# Altium integrated library Linear Technology Power Management LDO Linear Regulators.IntLib: 2339 symbols (part 6 of 131)
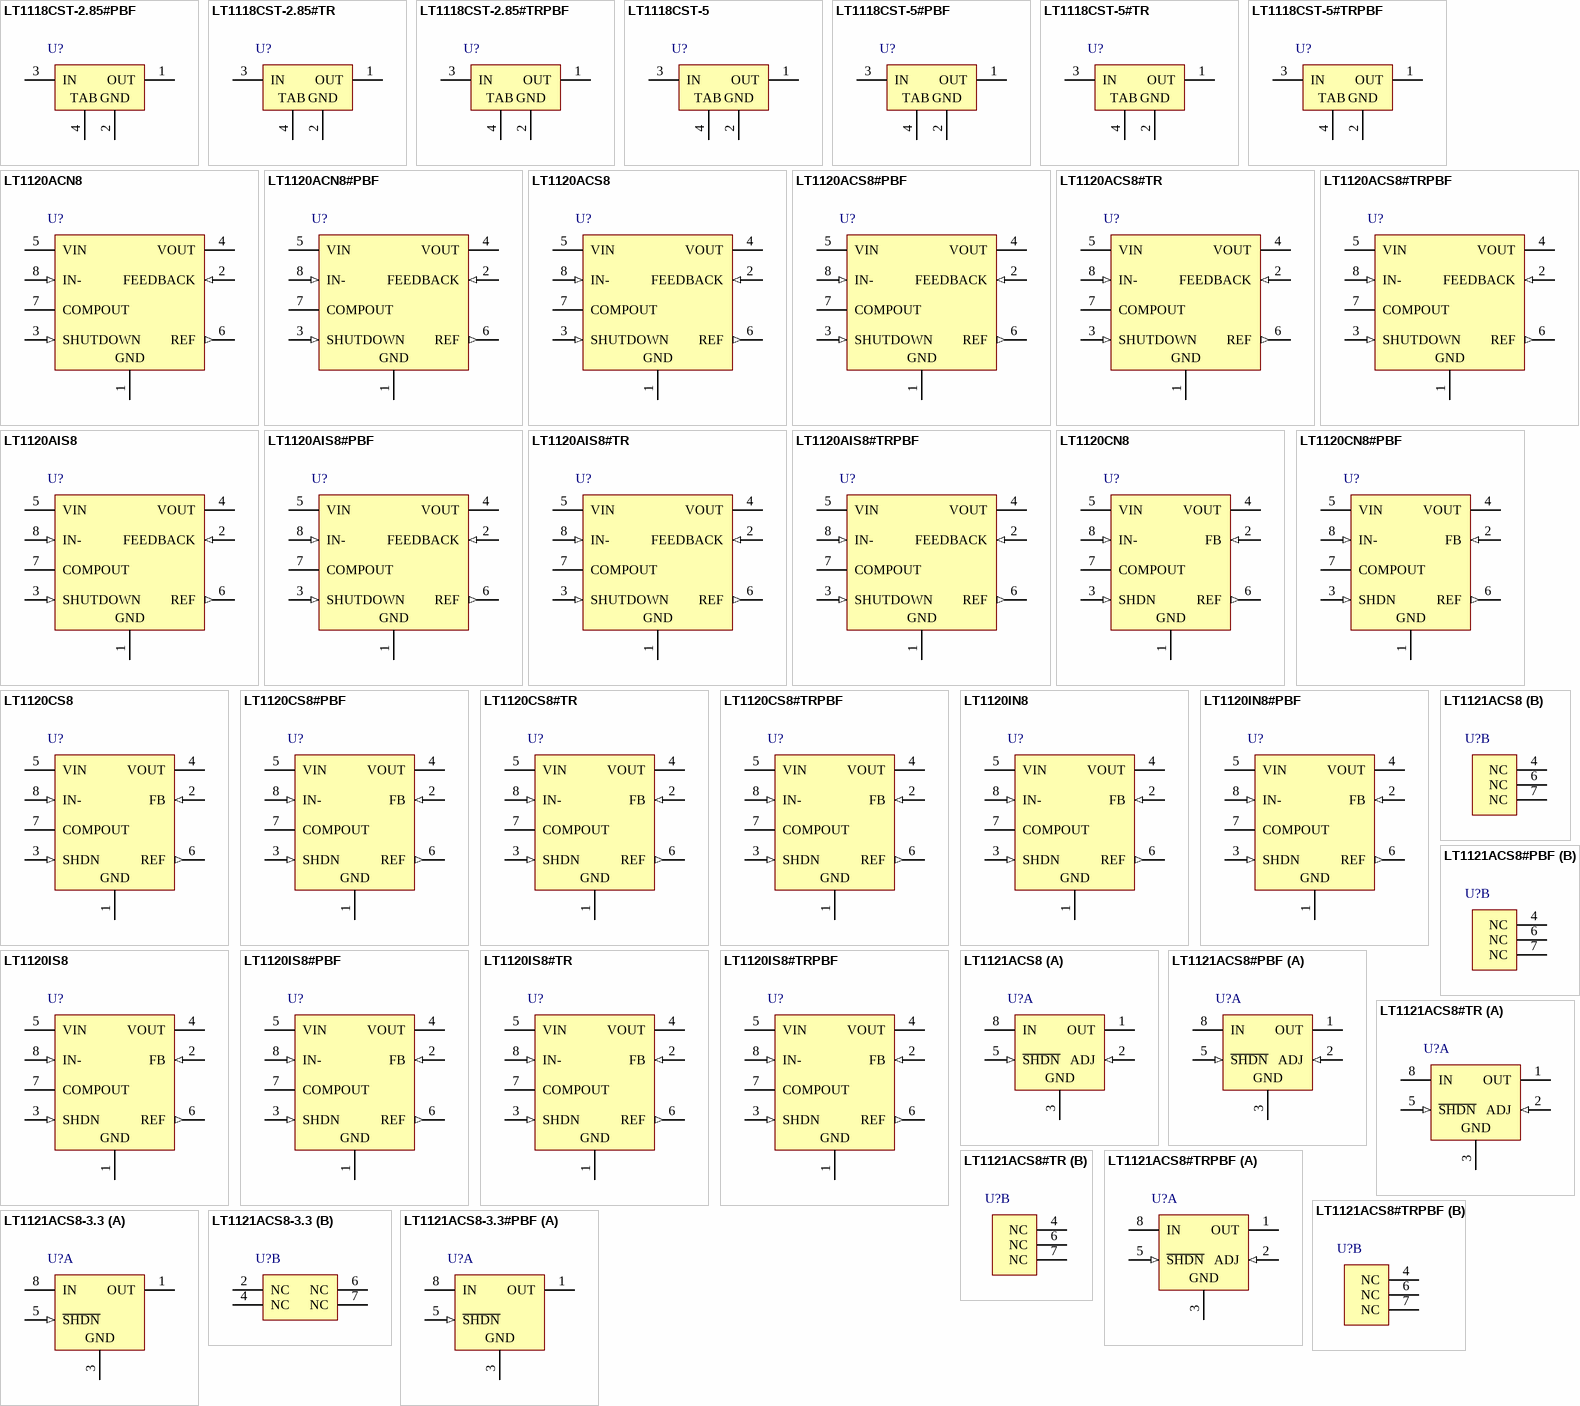
[diagram p74: symbols LT1118CST-2.85#PBF to LT1121ACS8-3.3#PBF]

## LT1118CST-5
designator U?
Low IQ, Low Dropout, 800 mA, Source and Sink Regulator, 3 to 15 V Vin, 5 V Vout, 3-pin SOT223 (ST-3), 0 to 70 degC; Manufacturer: Linear Technology; PartNumber: LT1118CST-5; Discrete Pass Element: no; Dropout Voltage(V): 1; Iout(mA): 800; Isupply(mA): 0.6; Output Voltage: 5 V; PSRR(dB): 80; Vin Max(V): 15; Vin Min(V): 3; DatasheetVersion: Rev. D; PackageVersion: Jun-10; PackageReference: ST-3; PackageDescription: 3-Pin Plastic SOT-223, 3.505 x 6.505 mm Body, Pitch 2.3 mm; Supplier 1: Digi-Key; Supplier Part Number 1: LT1118CST-5-ND; Supplier 2: Newark; Supplier Part Number 2: 57M1832; Number of Outputs: 1; RoHS: FALSE; Shutdown Current(uA): 1; Mounting Technology: Surface Mount; ComponentLink1Description: Manufacturer URL; ComponentLink1URL: http://www.linear.com/; ComponentLink2Description: Datasheet; ComponentLink2URL: http://cds.linear.com/docs/en/datasheet/1118fd.pdf; ComponentLink3Description: Package Specification; ComponentLink3URL: http://cds.linear.com/docs/en/packaging/SOT_3_05-08-1630.pdf
footprint LT-ST-3-SOT-223_N (SOT223, 4-Leads, Body 6.505x3.505mm, Pitch 2.3mm, IPC Medium Density)
footprint LT-ST-3-SOT-223_L (SOT223, 4-Leads, Body 6.505x3.505mm, Pitch 2.3mm, IPC High Density)
footprint LT-ST-3-SOT-223_M (SOT223, 4-Leads, Body 6.505x3.505mm, Pitch 2.3mm, IPC Low Density)
pins: 1 OUT (power) "Regulated Output Voltage. Output can source or sink current. Current limit for sourcing and sinking current is provided to protect the device from fault conditons. The output must have a low ESR output filter capacitor. COUT (See Datasheet)", 2 GND (power) "Ground Pin. The multiple GND pins on the SO-8 package are internally connected, but lowest load regulation errors will result if these pins are tightly connected on the printed circuit board. This will also aid heat (See Datasheet)", 3 IN (power) "Input Supply Pin. This pin should be decoupled with a 1uF or larger low ESR capacitor. The two IN pins on the SO-8 package must be directly connected on the printed circuit board to prevent voltage drops between the two (See Datasheet)", 4 TAB (power) "Ground Pin. The multiple GND pins on the SO-8 package are internally connected, but lowest load regulation errors will result if these pins are tightly connected on the printed circuit board. This will also aid heat (See Datasheet)"

## LT1118CST-5#PBF
designator U?
Low IQ, Low Dropout, 800 mA, Source and Sink Regulator, 3 to 15 V Vin, 5 V Vout, 3-pin SOT223 (ST-3), 0 to 70 degC, Pb-Free; Manufacturer: Linear Technology; PartNumber: LT1118CST-5#PBF; Discrete Pass Element: no; Dropout Voltage(V): 1; Iout(mA): 800; Isupply(mA): 0.6; Output Voltage: 5 V; PSRR(dB): 80; Vin Max(V): 15; Vin Min(V): 3; DatasheetVersion: Rev. D; PackageVersion: Jun-10; PackageReference: ST-3; PackageDescription: 3-Pin Plastic SOT-223, 3.505 x 6.505 mm Body, Pitch 2.3 mm; Supplier 1: Digi-Key; Supplier Part Number 1: LT1118CST-5#PBF-ND; Supplier 2: Farnell; Supplier Part Number 2: 1663360; Supplier 3: Newark; Supplier Part Number 3: 57M1833; Number of Outputs: 1; RoHS: TRUE; Shutdown Current(uA): 1; Mounting Technology: Surface Mount; ComponentLink1Description: Manufacturer URL; ComponentLink1URL: http://www.linear.com/; ComponentLink2Description: Datasheet; ComponentLink2URL: http://cds.linear.com/docs/en/datasheet/1118fd.pdf; ComponentLink3Description: Package Specification; ComponentLink3URL: http://cds.linear.com/docs/en/packaging/SOT_3_05-08-1630.pdf
footprint LT-ST-3-SOT-223_N (SOT223, 4-Leads, Body 6.505x3.505mm, Pitch 2.3mm, IPC Medium Density)
footprint LT-ST-3-SOT-223_L (SOT223, 4-Leads, Body 6.505x3.505mm, Pitch 2.3mm, IPC High Density)
footprint LT-ST-3-SOT-223_M (SOT223, 4-Leads, Body 6.505x3.505mm, Pitch 2.3mm, IPC Low Density)
pins: 1 OUT (power) "Regulated Output Voltage. Output can source or sink current. Current limit for sourcing and sinking current is provided to protect the device from fault conditons. The output must have a low ESR output filter capacitor. COUT (See Datasheet)", 2 GND (power) "Ground Pin. The multiple GND pins on the SO-8 package are internally connected, but lowest load regulation errors will result if these pins are tightly connected on the printed circuit board. This will also aid heat (See Datasheet)", 3 IN (power) "Input Supply Pin. This pin should be decoupled with a 1uF or larger low ESR capacitor. The two IN pins on the SO-8 package must be directly connected on the printed circuit board to prevent voltage drops between the two (See Datasheet)", 4 TAB (power) "Ground Pin. The multiple GND pins on the SO-8 package are internally connected, but lowest load regulation errors will result if these pins are tightly connected on the printed circuit board. This will also aid heat (See Datasheet)"

## LT1118CST-5#TR
designator U?
Low IQ, Low Dropout, 800 mA, Source and Sink Regulator, 3 to 15 V Vin, 5 V Vout, 3-pin SOT223 (ST-3), 0 to 70 degC, Tape and Reel; Manufacturer: Linear Technology; PartNumber: LT1118CST-5#TR; Discrete Pass Element: no; Dropout Voltage(V): 1; Iout(mA): 800; Isupply(mA): 0.6; Output Voltage: 5 V; PSRR(dB): 80; Vin Max(V): 15; Vin Min(V): 3; DatasheetVersion: Rev. D; PackageVersion: Jun-10; PackageReference: ST-3; PackageDescription: 3-Pin Plastic SOT-223, 3.505 x 6.505 mm Body, Pitch 2.3 mm; Supplier 1: Digi-Key; Supplier Part Number 1: LT1118CST-5#TR-ND; Supplier 2: Newark; Supplier Part Number 2: 57M1834; Number of Outputs: 1; Packing: Tape and Reel; RoHS: FALSE; Shutdown Current(uA): 1; Mounting Technology: Surface Mount; ComponentLink1Description: Manufacturer URL; ComponentLink1URL: http://www.linear.com/; ComponentLink2Description: Datasheet; ComponentLink2URL: http://cds.linear.com/docs/en/datasheet/1118fd.pdf; ComponentLink3Description: Package Specification; ComponentLink3URL: http://cds.linear.com/docs/en/packaging/SOT_3_05-08-1630.pdf
footprint LT-ST-3-SOT-223_N (SOT223, 4-Leads, Body 6.505x3.505mm, Pitch 2.3mm, IPC Medium Density)
footprint LT-ST-3-SOT-223_L (SOT223, 4-Leads, Body 6.505x3.505mm, Pitch 2.3mm, IPC High Density)
footprint LT-ST-3-SOT-223_M (SOT223, 4-Leads, Body 6.505x3.505mm, Pitch 2.3mm, IPC Low Density)
pins: 1 OUT (power) "Regulated Output Voltage. Output can source or sink current. Current limit for sourcing and sinking current is provided to protect the device from fault conditons. The output must have a low ESR output filter capacitor. COUT (See Datasheet)", 2 GND (power) "Ground Pin. The multiple GND pins on the SO-8 package are internally connected, but lowest load regulation errors will result if these pins are tightly connected on the printed circuit board. This will also aid heat (See Datasheet)", 3 IN (power) "Input Supply Pin. This pin should be decoupled with a 1uF or larger low ESR capacitor. The two IN pins on the SO-8 package must be directly connected on the printed circuit board to prevent voltage drops between the two (See Datasheet)", 4 TAB (power) "Ground Pin. The multiple GND pins on the SO-8 package are internally connected, but lowest load regulation errors will result if these pins are tightly connected on the printed circuit board. This will also aid heat (See Datasheet)"

## LT1118CST-5#TRPBF
designator U?
Low IQ, Low Dropout, 800 mA, Source and Sink Regulator, 3 to 15 V Vin, 5 V Vout, 3-pin SOT223 (ST-3), 0 to 70 degC, Pb-Free, Tape and Reel; Manufacturer: Linear Technology; PartNumber: LT1118CST-5#TRPBF; Discrete Pass Element: no; Dropout Voltage(V): 1; Iout(mA): 800; Isupply(mA): 0.6; Output Voltage: 5 V; PSRR(dB): 80; Vin Max(V): 15; Vin Min(V): 3; DatasheetVersion: Rev. D; PackageVersion: Jun-10; PackageReference: ST-3; PackageDescription: 3-Pin Plastic SOT-223, 3.505 x 6.505 mm Body, Pitch 2.3 mm; Supplier 1: Digi-Key; Supplier Part Number 1: LT1118CST-5#TRPBF-ND; Supplier 2: Newark; Supplier Part Number 2: 57M1835; Number of Outputs: 1; Packing: Tape and Reel; RoHS: TRUE; Shutdown Current(uA): 1; Mounting Technology: Surface Mount; ComponentLink1Description: Manufacturer URL; ComponentLink1URL: http://www.linear.com/; ComponentLink2Description: Datasheet; ComponentLink2URL: http://cds.linear.com/docs/en/datasheet/1118fd.pdf; ComponentLink3Description: Package Specification; ComponentLink3URL: http://cds.linear.com/docs/en/packaging/SOT_3_05-08-1630.pdf
footprint LT-ST-3-SOT-223_N (SOT223, 4-Leads, Body 6.505x3.505mm, Pitch 2.3mm, IPC Medium Density)
footprint LT-ST-3-SOT-223_L (SOT223, 4-Leads, Body 6.505x3.505mm, Pitch 2.3mm, IPC High Density)
footprint LT-ST-3-SOT-223_M (SOT223, 4-Leads, Body 6.505x3.505mm, Pitch 2.3mm, IPC Low Density)
pins: 1 OUT (power) "Regulated Output Voltage. Output can source or sink current. Current limit for sourcing and sinking current is provided to protect the device from fault conditons. The output must have a low ESR output filter capacitor. COUT (See Datasheet)", 2 GND (power) "Ground Pin. The multiple GND pins on the SO-8 package are internally connected, but lowest load regulation errors will result if these pins are tightly connected on the printed circuit board. This will also aid heat (See Datasheet)", 3 IN (power) "Input Supply Pin. This pin should be decoupled with a 1uF or larger low ESR capacitor. The two IN pins on the SO-8 package must be directly connected on the printed circuit board to prevent voltage drops between the two (See Datasheet)", 4 TAB (power) "Ground Pin. The multiple GND pins on the SO-8 package are internally connected, but lowest load regulation errors will result if these pins are tightly connected on the printed circuit board. This will also aid heat (See Datasheet)"

## LT1120ACN8
designator U?
Comparator and Reference, Logic Shutdown, Reference Sources and Sinks 2 / 4 mA, 4.5 to 36 V Vin, Adjustable Vout, 8-pin DIP (N8-8), 0 to 100 degC; Manufacturer: Linear Technology; PartNumber: LT1120ACN8; Discrete Pass Element: no; Dropout Voltage(V): 0.4; Iout(mA): 125; Isupply(mA): 0.02; Number of Outputs: 1; Output Voltage: Adj; Shutdown Current(uA): 10; Vin Max(V): 36; Vin Min(V): 4.5; Vout Max(V): 35.15; Vout Min(V): 2.5; DatasheetVersion: Rev. A; PackageVersion: Rev. I, 07/2011; PackageReference: N8-8; PackageDescription: 8-Pin PDIP, Body 10.16 x 6.48 mm, Pitch 2.54 mm; RoHS: FALSE; Mounting Technology: Through Hole; ComponentLink1Description: Manufacturer URL; ComponentLink1URL: http://www.linear.com/; ComponentLink2Description: Datasheet; ComponentLink2URL: http://cds.linear.com/docs/en/datasheet/1120afa.pdf; ComponentLink3Description: Package Specification; ComponentLink3URL: http://www.linear.com/docs/en/packaging/05081510_I_N8.pdf
footprint LT-N8-8 (DIP, 8-Leads, Body 10.16x6.48mm, Pitch 2.54mm)
pins: 1 GND (power) "Ground", 2 FEEDBACK (in) "This is the feedback point of the regulator. When operating, it is nominally at 2.5V. Optimum source resistance is 200k to 500k. The feedback pin should not be driven below ground or more positive than 5V", 3 SHUTDOWN (in) "A logic 1 shuts off main regulator. Caution: noise or leakage into the shutdown pin can affect output voltage.", 4 VOUT (power) "Main output, requires 10uF output capacitor. Can be shorted to VIN or ground without damaging device.", 5 VIN (power) "Input Supply. Bypass with 10uF capacitor. Must always be more positive than ground.", 6 REF (out) "Reference. 2.5V can source or sink current. May be shorted to ground or up to 5V. Voltages in excess of 5V can damage the device.", 7 COMPOUT (oc) "Open Collector NPN Output. May be connected to any voltage from ground to 36V more positive than ground (operates above VIN). Short-circuit protected", 8 IN- (in) "Inverting Comparator Input."

## LT1120ACN8#PBF
designator U?
Comparator and Reference, Logic Shutdown, Reference Sources and Sinks 2 / 4 mA, 4.5 to 36 V Vin, Adjustable Vout, 8-pin DIP (N8-8), 0 to 100 degC, Pb-Free; Manufacturer: Linear Technology; PartNumber: LT1120ACN8#PBF; Discrete Pass Element: no; Dropout Voltage(V): 0.4; Iout(mA): 125; Isupply(mA): 0.02; Number of Outputs: 1; Output Voltage: Adj; Shutdown Current(uA): 10; Vin Max(V): 36; Vin Min(V): 4.5; Vout Max(V): 35.15; Vout Min(V): 2.5; DatasheetVersion: Rev. A; PackageVersion: Rev. I, 07/2011; PackageReference: N8-8; PackageDescription: 8-Pin PDIP, Body 10.16 x 6.48 mm, Pitch 2.54 mm; Supplier 1: Digi-Key; Supplier Part Number 1: LT1120ACN8#PBF-ND; RoHS: TRUE; Mounting Technology: Through Hole; ComponentLink1Description: Manufacturer URL; ComponentLink1URL: http://www.linear.com/; ComponentLink2Description: Datasheet; ComponentLink2URL: http://cds.linear.com/docs/en/datasheet/1120afa.pdf; ComponentLink3Description: Package Specification; ComponentLink3URL: http://www.linear.com/docs/en/packaging/05081510_I_N8.pdf
footprint LT-N8-8 (DIP, 8-Leads, Body 10.16x6.48mm, Pitch 2.54mm)
pins: 1 GND (power) "Ground", 2 FEEDBACK (in) "This is the feedback point of the regulator. When operating, it is nominally at 2.5V. Optimum source resistance is 200k to 500k. The feedback pin should not be driven below ground or more positive than 5V", 3 SHUTDOWN (in) "A logic 1 shuts off main regulator. Caution: noise or leakage into the shutdown pin can affect output voltage.", 4 VOUT (power) "Main output, requires 10uF output capacitor. Can be shorted to VIN or ground without damaging device.", 5 VIN (power) "Input Supply. Bypass with 10uF capacitor. Must always be more positive than ground.", 6 REF (out) "Reference. 2.5V can source or sink current. May be shorted to ground or up to 5V. Voltages in excess of 5V can damage the device.", 7 COMPOUT (oc) "Open Collector NPN Output. May be connected to any voltage from ground to 36V more positive than ground (operates above VIN). Short-circuit protected", 8 IN- (in) "Inverting Comparator Input."

## LT1120ACS8
designator U?
Comparator and Reference, Logic Shutdown, Reference Sources and Sinks 2 / 4 mA, 4.5 to 36 V Vin, Adjustable Vout, 8-pin SOIC (S8-8), 0 to 100 degC; Manufacturer: Linear Technology; PartNumber: LT1120ACS8; Discrete Pass Element: no; Dropout Voltage(V): 0.4; Iout(mA): 125; Isupply(mA): 0.02; Number of Outputs: 1; Output Voltage: Adj; Shutdown Current(uA): 10; Vin Max(V): 36; Vin Min(V): 4.5; Vout Max(V): 35.15; Vout Min(V): 2.5; DatasheetVersion: Rev. A; PackageVersion: Rev. G, 03/2012; PackageReference: S8-8; PackageDescription: 8-Pin Plastic Small Outline (Narrow .150 Inch), Body 4.9 x 3.9 mm, Pitch 1.27 mm; Supplier 1: Digi-Key; Supplier Part Number 1: LT1120ACS8-ND; RoHS: FALSE; Mounting Technology: Surface Mount; ComponentLink1Description: Manufacturer URL; ComponentLink1URL: http://www.linear.com/; ComponentLink2Description: Datasheet; ComponentLink2URL: http://cds.linear.com/docs/en/datasheet/1120afa.pdf; ComponentLink3Description: Package Specification; ComponentLink3URL: http://cds.linear.com/docs/en/packaging/05081610_G_SO8.pdf
footprint LT-S8-8_N (SOIC, 8-Leads, Body 4.9x3.9mm, Pitch 1.27mm, IPC Medium Density)
footprint LT-S8-8_L (SOIC, 8-Leads, Body 4.9x3.9mm, Pitch 1.27mm, IPC High Density)
footprint LT-S8-8_M (SOIC, 8-Leads, Body 4.9x3.9mm, Pitch 1.27mm, IPC Low Density)
pins: 1 GND (power) "Ground", 2 FEEDBACK (in) "This is the feedback point of the regulator. When operating, it is nominally at 2.5V. Optimum source resistance is 200k to 500k. The feedback pin should not be driven below ground or more positive than 5V", 3 SHUTDOWN (in) "A logic 1 shuts off main regulator. Caution: noise or leakage into the shutdown pin can affect output voltage.", 4 VOUT (power) "Main output, requires 10uF output capacitor. Can be shorted to VIN or ground without damaging device.", 5 VIN (power) "Input Supply. Bypass with 10uF capacitor. Must always be more positive than ground.", 6 REF (out) "Reference. 2.5V can source or sink current. May be shorted to ground or up to 5V. Voltages in excess of 5V can damage the device.", 7 COMPOUT (oc) "Open Collector NPN Output. May be connected to any voltage from ground to 36V more positive than ground (operates above VIN). Short-circuit protected", 8 IN- (in) "Inverting Comparator Input."

## LT1120ACS8#PBF
designator U?
Comparator and Reference, Logic Shutdown, Reference Sources and Sinks 2 / 4 mA, 4.5 to 36 V Vin, Adjustable Vout, 8-pin SOIC (S8-8), 0 to 100 degC, Pb-Free; Manufacturer: Linear Technology; PartNumber: LT1120ACS8#PBF; Discrete Pass Element: no; Dropout Voltage(V): 0.4; Iout(mA): 125; Isupply(mA): 0.02; Number of Outputs: 1; Output Voltage: Adj; Shutdown Current(uA): 10; Vin Max(V): 36; Vin Min(V): 4.5; Vout Max(V): 35.15; Vout Min(V): 2.5; DatasheetVersion: Rev. A; PackageVersion: Rev. G, 03/2012; PackageReference: S8-8; PackageDescription: 8-Pin Plastic Small Outline (Narrow .150 Inch), Body 4.9 x 3.9 mm, Pitch 1.27 mm; Supplier 1: Digi-Key; Supplier Part Number 1: LT1120ACS8#PBF-ND; Supplier 2: Farnell; Supplier Part Number 2: 1273564; Supplier 3: Newark; Supplier Part Number 3: 57M1855; RoHS: TRUE; Mounting Technology: Surface Mount; ComponentLink1Description: Manufacturer URL; ComponentLink1URL: http://www.linear.com/; ComponentLink2Description: Datasheet; ComponentLink2URL: http://cds.linear.com/docs/en/datasheet/1120afa.pdf; ComponentLink3Description: Package Specification; ComponentLink3URL: http://cds.linear.com/docs/en/packaging/05081610_G_SO8.pdf
footprint LT-S8-8_N (SOIC, 8-Leads, Body 4.9x3.9mm, Pitch 1.27mm, IPC Medium Density)
footprint LT-S8-8_L (SOIC, 8-Leads, Body 4.9x3.9mm, Pitch 1.27mm, IPC High Density)
footprint LT-S8-8_M (SOIC, 8-Leads, Body 4.9x3.9mm, Pitch 1.27mm, IPC Low Density)
pins: 1 GND (power) "Ground", 2 FEEDBACK (in) "This is the feedback point of the regulator. When operating, it is nominally at 2.5V. Optimum source resistance is 200k to 500k. The feedback pin should not be driven below ground or more positive than 5V", 3 SHUTDOWN (in) "A logic 1 shuts off main regulator. Caution: noise or leakage into the shutdown pin can affect output voltage.", 4 VOUT (power) "Main output, requires 10uF output capacitor. Can be shorted to VIN or ground without damaging device.", 5 VIN (power) "Input Supply. Bypass with 10uF capacitor. Must always be more positive than ground.", 6 REF (out) "Reference. 2.5V can source or sink current. May be shorted to ground or up to 5V. Voltages in excess of 5V can damage the device.", 7 COMPOUT (oc) "Open Collector NPN Output. May be connected to any voltage from ground to 36V more positive than ground (operates above VIN). Short-circuit protected", 8 IN- (in) "Inverting Comparator Input."

## LT1120ACS8#TR
designator U?
Comparator and Reference, Logic Shutdown, Reference Sources and Sinks 2 / 4 mA, 4.5 to 36 V Vin, Adjustable Vout, 8-pin SOIC (S8-8), 0 to 100 degC, Tape and Reel; Manufacturer: Linear Technology; PartNumber: LT1120ACS8#TR; Discrete Pass Element: no; Dropout Voltage(V): 0.4; Iout(mA): 125; Isupply(mA): 0.02; Number of Outputs: 1; Output Voltage: Adj; Shutdown Current(uA): 10; Vin Max(V): 36; Vin Min(V): 4.5; Vout Max(V): 35.15; Vout Min(V): 2.5; DatasheetVersion: Rev. A; PackageVersion: Rev. G, 03/2012; PackageReference: S8-8; PackageDescription: 8-Pin Plastic Small Outline (Narrow .150 Inch), Body 4.9 x 3.9 mm, Pitch 1.27 mm; Supplier 1: Digi-Key; Supplier Part Number 1: LT1120ACS8#TR-ND; Packing: Tape and Reel; RoHS: FALSE; Mounting Technology: Surface Mount; ComponentLink1Description: Manufacturer URL; ComponentLink1URL: http://www.linear.com/; ComponentLink2Description: Datasheet; ComponentLink2URL: http://cds.linear.com/docs/en/datasheet/1120afa.pdf; ComponentLink3Description: Package Specification; ComponentLink3URL: http://cds.linear.com/docs/en/packaging/05081610_G_SO8.pdf
footprint LT-S8-8_N (SOIC, 8-Leads, Body 4.9x3.9mm, Pitch 1.27mm, IPC Medium Density)
footprint LT-S8-8_L (SOIC, 8-Leads, Body 4.9x3.9mm, Pitch 1.27mm, IPC High Density)
footprint LT-S8-8_M (SOIC, 8-Leads, Body 4.9x3.9mm, Pitch 1.27mm, IPC Low Density)
pins: 1 GND (power) "Ground", 2 FEEDBACK (in) "This is the feedback point of the regulator. When operating, it is nominally at 2.5V. Optimum source resistance is 200k to 500k. The feedback pin should not be driven below ground or more positive than 5V", 3 SHUTDOWN (in) "A logic 1 shuts off main regulator. Caution: noise or leakage into the shutdown pin can affect output voltage.", 4 VOUT (power) "Main output, requires 10uF output capacitor. Can be shorted to VIN or ground without damaging device.", 5 VIN (power) "Input Supply. Bypass with 10uF capacitor. Must always be more positive than ground.", 6 REF (out) "Reference. 2.5V can source or sink current. May be shorted to ground or up to 5V. Voltages in excess of 5V can damage the device.", 7 COMPOUT (oc) "Open Collector NPN Output. May be connected to any voltage from ground to 36V more positive than ground (operates above VIN). Short-circuit protected", 8 IN- (in) "Inverting Comparator Input."

## LT1120ACS8#TRPBF
designator U?
Comparator and Reference, Logic Shutdown, Reference Sources and Sinks 2 / 4 mA, 4.5 to 36 V Vin, Adjustable Vout, 8-pin SOIC (S8-8), 0 to 100 degC, Pb-Free, Tape and Reel; Manufacturer: Linear Technology; PartNumber: LT1120ACS8#TRPBF; Discrete Pass Element: no; Dropout Voltage(V): 0.4; Iout(mA): 125; Isupply(mA): 0.02; Number of Outputs: 1; Output Voltage: Adj; Shutdown Current(uA): 10; Vin Max(V): 36; Vin Min(V): 4.5; Vout Max(V): 35.15; Vout Min(V): 2.5; DatasheetVersion: Rev. A; PackageVersion: Rev. G, 03/2012; PackageReference: S8-8; PackageDescription: 8-Pin Plastic Small Outline (Narrow .150 Inch), Body 4.9 x 3.9 mm, Pitch 1.27 mm; Supplier 1: Digi-Key; Supplier Part Number 1: LT1120ACS8#TRPBF-ND; Supplier 2: Newark; Supplier Part Number 2: 57M1857; Packing: Tape and Reel; RoHS: TRUE; Mounting Technology: Surface Mount; ComponentLink1Description: Manufacturer URL; ComponentLink1URL: http://www.linear.com/; ComponentLink2Description: Datasheet; ComponentLink2URL: http://cds.linear.com/docs/en/datasheet/1120afa.pdf; ComponentLink3Description: Package Specification; ComponentLink3URL: http://cds.linear.com/docs/en/packaging/05081610_G_SO8.pdf
footprint LT-S8-8_N (SOIC, 8-Leads, Body 4.9x3.9mm, Pitch 1.27mm, IPC Medium Density)
footprint LT-S8-8_L (SOIC, 8-Leads, Body 4.9x3.9mm, Pitch 1.27mm, IPC High Density)
footprint LT-S8-8_M (SOIC, 8-Leads, Body 4.9x3.9mm, Pitch 1.27mm, IPC Low Density)
pins: 1 GND (power) "Ground", 2 FEEDBACK (in) "This is the feedback point of the regulator. When operating, it is nominally at 2.5V. Optimum source resistance is 200k to 500k. The feedback pin should not be driven below ground or more positive than 5V", 3 SHUTDOWN (in) "A logic 1 shuts off main regulator. Caution: noise or leakage into the shutdown pin can affect output voltage.", 4 VOUT (power) "Main output, requires 10uF output capacitor. Can be shorted to VIN or ground without damaging device.", 5 VIN (power) "Input Supply. Bypass with 10uF capacitor. Must always be more positive than ground.", 6 REF (out) "Reference. 2.5V can source or sink current. May be shorted to ground or up to 5V. Voltages in excess of 5V can damage the device.", 7 COMPOUT (oc) "Open Collector NPN Output. May be connected to any voltage from ground to 36V more positive than ground (operates above VIN). Short-circuit protected", 8 IN- (in) "Inverting Comparator Input."

## LT1120AIS8
designator U?
Comparator and Reference, Logic Shutdown, Reference Sources and Sinks 2 / 4 mA, 4.5 to 36 V Vin, Adjustable Vout, 8-pin SOIC (S8-8), -40 to 100 degC; Manufacturer: Linear Technology; PartNumber: LT1120AIS8; Discrete Pass Element: no; Dropout Voltage(V): 0.4; Iout(mA): 125; Isupply(mA): 0.02; Number of Outputs: 1; Output Voltage: Adj; Shutdown Current(uA): 10; Vin Max(V): 36; Vin Min(V): 4.5; Vout Max(V): 35.15; Vout Min(V): 2.5; DatasheetVersion: Rev. A; PackageVersion: Rev. G, 03/2012; PackageReference: S8-8; PackageDescription: 8-Pin Plastic Small Outline (Narrow .150 Inch), Body 4.9 x 3.9 mm, Pitch 1.27 mm; Supplier 1: Digi-Key; Supplier Part Number 1: LT1120AIS8-ND; Supplier 2: Newark; Supplier Part Number 2: 57M1858; RoHS: FALSE; Mounting Technology: Surface Mount; ComponentLink1Description: Manufacturer URL; ComponentLink1URL: http://www.linear.com/; ComponentLink2Description: Datasheet; ComponentLink2URL: http://cds.linear.com/docs/en/datasheet/1120afa.pdf; ComponentLink3Description: Package Specification; ComponentLink3URL: http://cds.linear.com/docs/en/packaging/05081610_G_SO8.pdf
footprint LT-S8-8_N (SOIC, 8-Leads, Body 4.9x3.9mm, Pitch 1.27mm, IPC Medium Density)
footprint LT-S8-8_L (SOIC, 8-Leads, Body 4.9x3.9mm, Pitch 1.27mm, IPC High Density)
footprint LT-S8-8_M (SOIC, 8-Leads, Body 4.9x3.9mm, Pitch 1.27mm, IPC Low Density)
pins: 1 GND (power) "Ground", 2 FEEDBACK (in) "This is the feedback point of the regulator. When operating, it is nominally at 2.5V. Optimum source resistance is 200k to 500k. The feedback pin should not be driven below ground or more positive than 5V", 3 SHUTDOWN (in) "A logic 1 shuts off main regulator. Caution: noise or leakage into the shutdown pin can affect output voltage.", 4 VOUT (power) "Main output, requires 10uF output capacitor. Can be shorted to VIN or ground without damaging device.", 5 VIN (power) "Input Supply. Bypass with 10uF capacitor. Must always be more positive than ground.", 6 REF (out) "Reference. 2.5V can source or sink current. May be shorted to ground or up to 5V. Voltages in excess of 5V can damage the device.", 7 COMPOUT (oc) "Open Collector NPN Output. May be connected to any voltage from ground to 36V more positive than ground (operates above VIN). Short-circuit protected", 8 IN- (in) "Inverting Comparator Input."

## LT1120AIS8#PBF
designator U?
Comparator and Reference, Logic Shutdown, Reference Sources and Sinks 2 / 4 mA, 4.5 to 36 V Vin, Adjustable Vout, 8-pin SOIC (S8-8), -40 to 100 degC, Pb-Free; Manufacturer: Linear Technology; PartNumber: LT1120AIS8#PBF; Discrete Pass Element: no; Dropout Voltage(V): 0.4; Iout(mA): 125; Isupply(mA): 0.02; Number of Outputs: 1; Output Voltage: Adj; Shutdown Current(uA): 10; Vin Max(V): 36; Vin Min(V): 4.5; Vout Max(V): 35.15; Vout Min(V): 2.5; DatasheetVersion: Rev. A; PackageVersion: Rev. G, 03/2012; PackageReference: S8-8; PackageDescription: 8-Pin Plastic Small Outline (Narrow .150 Inch), Body 4.9 x 3.9 mm, Pitch 1.27 mm; Supplier 1: Digi-Key; Supplier Part Number 1: LT1120AIS8#PBF-ND; Supplier 2: Newark; Supplier Part Number 2: 57M1859; RoHS: TRUE; Mounting Technology: Surface Mount; ComponentLink1Description: Manufacturer URL; ComponentLink1URL: http://www.linear.com/; ComponentLink2Description: Datasheet; ComponentLink2URL: http://cds.linear.com/docs/en/datasheet/1120afa.pdf; ComponentLink3Description: Package Specification; ComponentLink3URL: http://cds.linear.com/docs/en/packaging/05081610_G_SO8.pdf
footprint LT-S8-8_N (SOIC, 8-Leads, Body 4.9x3.9mm, Pitch 1.27mm, IPC Medium Density)
footprint LT-S8-8_L (SOIC, 8-Leads, Body 4.9x3.9mm, Pitch 1.27mm, IPC High Density)
footprint LT-S8-8_M (SOIC, 8-Leads, Body 4.9x3.9mm, Pitch 1.27mm, IPC Low Density)
pins: 1 GND (power) "Ground", 2 FEEDBACK (in) "This is the feedback point of the regulator. When operating, it is nominally at 2.5V. Optimum source resistance is 200k to 500k. The feedback pin should not be driven below ground or more positive than 5V", 3 SHUTDOWN (in) "A logic 1 shuts off main regulator. Caution: noise or leakage into the shutdown pin can affect output voltage.", 4 VOUT (power) "Main output, requires 10uF output capacitor. Can be shorted to VIN or ground without damaging device.", 5 VIN (power) "Input Supply. Bypass with 10uF capacitor. Must always be more positive than ground.", 6 REF (out) "Reference. 2.5V can source or sink current. May be shorted to ground or up to 5V. Voltages in excess of 5V can damage the device.", 7 COMPOUT (oc) "Open Collector NPN Output. May be connected to any voltage from ground to 36V more positive than ground (operates above VIN). Short-circuit protected", 8 IN- (in) "Inverting Comparator Input."

## LT1120AIS8#TR
designator U?
Comparator and Reference, Logic Shutdown, Reference Sources and Sinks 2 / 4 mA, 4.5 to 36 V Vin, Adjustable Vout, 8-pin SOIC (S8-8), -40 to 100 degC, Tape and Reel; Manufacturer: Linear Technology; PartNumber: LT1120AIS8#TR; Discrete Pass Element: no; Dropout Voltage(V): 0.4; Iout(mA): 125; Isupply(mA): 0.02; Number of Outputs: 1; Output Voltage: Adj; Shutdown Current(uA): 10; Vin Max(V): 36; Vin Min(V): 4.5; Vout Max(V): 35.15; Vout Min(V): 2.5; DatasheetVersion: Rev. A; PackageVersion: Rev. G, 03/2012; PackageReference: S8-8; PackageDescription: 8-Pin Plastic Small Outline (Narrow .150 Inch), Body 4.9 x 3.9 mm, Pitch 1.27 mm; Supplier 1: Digi-Key; Supplier Part Number 1: LT1120AIS8#TR-ND; Supplier 2: Newark; Supplier Part Number 2: 57M1860; Packing: Tape and Reel; RoHS: FALSE; Mounting Technology: Surface Mount; ComponentLink1Description: Manufacturer URL; ComponentLink1URL: http://www.linear.com/; ComponentLink2Description: Datasheet; ComponentLink2URL: http://cds.linear.com/docs/en/datasheet/1120afa.pdf; ComponentLink3Description: Package Specification; ComponentLink3URL: http://cds.linear.com/docs/en/packaging/05081610_G_SO8.pdf
footprint LT-S8-8_N (SOIC, 8-Leads, Body 4.9x3.9mm, Pitch 1.27mm, IPC Medium Density)
footprint LT-S8-8_L (SOIC, 8-Leads, Body 4.9x3.9mm, Pitch 1.27mm, IPC High Density)
footprint LT-S8-8_M (SOIC, 8-Leads, Body 4.9x3.9mm, Pitch 1.27mm, IPC Low Density)
pins: 1 GND (power) "Ground", 2 FEEDBACK (in) "This is the feedback point of the regulator. When operating, it is nominally at 2.5V. Optimum source resistance is 200k to 500k. The feedback pin should not be driven below ground or more positive than 5V", 3 SHUTDOWN (in) "A logic 1 shuts off main regulator. Caution: noise or leakage into the shutdown pin can affect output voltage.", 4 VOUT (power) "Main output, requires 10uF output capacitor. Can be shorted to VIN or ground without damaging device.", 5 VIN (power) "Input Supply. Bypass with 10uF capacitor. Must always be more positive than ground.", 6 REF (out) "Reference. 2.5V can source or sink current. May be shorted to ground or up to 5V. Voltages in excess of 5V can damage the device.", 7 COMPOUT (oc) "Open Collector NPN Output. May be connected to any voltage from ground to 36V more positive than ground (operates above VIN). Short-circuit protected", 8 IN- (in) "Inverting Comparator Input."

## LT1120AIS8#TRPBF
designator U?
Comparator and Reference, Logic Shutdown, Reference Sources and Sinks 2 / 4 mA, 4.5 to 36 V Vin, Adjustable Vout, 8-pin SOIC (S8-8), -40 to 100 degC, Pb-Free, Tape and Reel; Manufacturer: Linear Technology; PartNumber: LT1120AIS8#TRPBF; Discrete Pass Element: no; Dropout Voltage(V): 0.4; Iout(mA): 125; Isupply(mA): 0.02; Number of Outputs: 1; Output Voltage: Adj; Shutdown Current(uA): 10; Vin Max(V): 36; Vin Min(V): 4.5; Vout Max(V): 35.15; Vout Min(V): 2.5; DatasheetVersion: Rev. A; PackageVersion: Rev. G, 03/2012; PackageReference: S8-8; PackageDescription: 8-Pin Plastic Small Outline (Narrow .150 Inch), Body 4.9 x 3.9 mm, Pitch 1.27 mm; Supplier 1: Digi-Key; Supplier Part Number 1: LT1120AIS8#TRPBF-ND; Supplier 2: Newark; Supplier Part Number 2: 57M1861; Packing: Tape and Reel; RoHS: TRUE; Mounting Technology: Surface Mount; ComponentLink1Description: Manufacturer URL; ComponentLink1URL: http://www.linear.com/; ComponentLink2Description: Datasheet; ComponentLink2URL: http://cds.linear.com/docs/en/datasheet/1120afa.pdf; ComponentLink3Description: Package Specification; ComponentLink3URL: http://cds.linear.com/docs/en/packaging/05081610_G_SO8.pdf
footprint LT-S8-8_N (SOIC, 8-Leads, Body 4.9x3.9mm, Pitch 1.27mm, IPC Medium Density)
footprint LT-S8-8_L (SOIC, 8-Leads, Body 4.9x3.9mm, Pitch 1.27mm, IPC High Density)
footprint LT-S8-8_M (SOIC, 8-Leads, Body 4.9x3.9mm, Pitch 1.27mm, IPC Low Density)
pins: 1 GND (power) "Ground", 2 FEEDBACK (in) "This is the feedback point of the regulator. When operating, it is nominally at 2.5V. Optimum source resistance is 200k to 500k. The feedback pin should not be driven below ground or more positive than 5V", 3 SHUTDOWN (in) "A logic 1 shuts off main regulator. Caution: noise or leakage into the shutdown pin can affect output voltage.", 4 VOUT (power) "Main output, requires 10uF output capacitor. Can be shorted to VIN or ground without damaging device.", 5 VIN (power) "Input Supply. Bypass with 10uF capacitor. Must always be more positive than ground.", 6 REF (out) "Reference. 2.5V can source or sink current. May be shorted to ground or up to 5V. Voltages in excess of 5V can damage the device.", 7 COMPOUT (oc) "Open Collector NPN Output. May be connected to any voltage from ground to 36V more positive than ground (operates above VIN). Short-circuit protected", 8 IN- (in) "Inverting Comparator Input."

## LT1120CN8
designator U?
Comparator and Reference, Logic Shutdown, Reference Sources and Sinks 2 / 4 mA, 4.5 to 36 V Vin, Adjustable Vout, 8-pin DIP (N8-8), 0 to 100 degC; Manufacturer: Linear Technology; PartNumber: LT1120CN8; Discrete Pass Element: no; Dropout Voltage(V): 0.4; Iout(mA): 125; Isupply(mA): 0.04; Number of Outputs: 1; Output Voltage: Adj; Shutdown Current(uA): 25; Vin Max(V): 36; Vin Min(V): 4.5; Vout Max(V): 35.15; Vout Min(V): 2.5; DatasheetVersion: Rev. D; PackageVersion: Rev. I, 07/2011; PackageReference: N8-8; PackageDescription: 8-Pin PDIP, Body 10.16 x 6.48 mm, Pitch 2.54 mm; Supplier 1: Digi-Key; Supplier Part Number 1: LT1120CN8-ND; RoHS: FALSE; Mounting Technology: Through Hole; ComponentLink1Description: Manufacturer URL; ComponentLink1URL: http://www.linear.com/; ComponentLink2Description: Datasheet; ComponentLink2URL: http://cds.linear.com/docs/en/datasheet/1120fd.pdf; ComponentLink3Description: Package Specification; ComponentLink3URL: http://www.linear.com/docs/en/packaging/05081510_I_N8.pdf
footprint LT-N8-8 (DIP, 8-Leads, Body 10.16x6.48mm, Pitch 2.54mm)
pins: 1 GND (power) "Ground.", 2 FB (in) "Feedback. This is the feedback point of the regulator. When operating, it is nominally at 2.5V. Optimum source resistance is 200k to 500k. The feedback pin should not be driven below ground or more positive than 5V.", 3 SHDN (in) "Shutdown. A logic 1 shuts off the main regulator. Caution: noise or leakage into the shutdown pin can affect output voltage.", 4 VOUT (power) "Regulator Output. Main output, requires a 10uF output capacitor. Can be shorted to VIN or ground without damaging the device.", 5 VIN (power) "Input Supply. Bypass with a 10uF capacitor. Must always be more positive than ground", 6 REF (out) "Reference. 2.5V can source or sink current. May be shorted to ground or up to 5V. Voltages in excess of 5V can damage the device.", 7 COMPOUT (oc) "Comparator Output. Open Collector NPN Output. May be connected to any voltage from ground to 36V more positive than ground (operates above VIN). Short-circuit protected.", 8 IN- (in) "Comparator Input. Inverting comparator input."

## LT1120CN8#PBF
designator U?
Comparator and Reference, Logic Shutdown, Reference Sources and Sinks 2 / 4 mA, 4.5 to 36 V Vin, Adjustable Vout, 8-pin DIP (N8-8), 0 to 100 degC, Pb-Free; Manufacturer: Linear Technology; PartNumber: LT1120CN8#PBF; Discrete Pass Element: no; Dropout Voltage(V): 0.4; Iout(mA): 125; Isupply(mA): 0.04; Number of Outputs: 1; Output Voltage: Adj; Shutdown Current(uA): 25; Vin Max(V): 36; Vin Min(V): 4.5; Vout Max(V): 35.15; Vout Min(V): 2.5; DatasheetVersion: Rev. D; PackageVersion: Rev. I, 07/2011; PackageReference: N8-8; PackageDescription: 8-Pin PDIP, Body 10.16 x 6.48 mm, Pitch 2.54 mm; Supplier 1: Digi-Key; Supplier Part Number 1: LT1120CN8#PBF-ND; Supplier 2: Farnell; Supplier Part Number 2: 9560041; Supplier 3: Newark; Supplier Part Number 3: 57M1863; RoHS: TRUE; Mounting Technology: Through Hole; ComponentLink1Description: Manufacturer URL; ComponentLink1URL: http://www.linear.com/; ComponentLink2Description: Datasheet; ComponentLink2URL: http://cds.linear.com/docs/en/datasheet/1120fd.pdf; ComponentLink3Description: Package Specification; ComponentLink3URL: http://www.linear.com/docs/en/packaging/05081510_I_N8.pdf
footprint LT-N8-8 (DIP, 8-Leads, Body 10.16x6.48mm, Pitch 2.54mm)
pins: 1 GND (power) "Ground.", 2 FB (in) "Feedback. This is the feedback point of the regulator. When operating, it is nominally at 2.5V. Optimum source resistance is 200k to 500k. The feedback pin should not be driven below ground or more positive than 5V.", 3 SHDN (in) "Shutdown. A logic 1 shuts off the main regulator. Caution: noise or leakage into the shutdown pin can affect output voltage.", 4 VOUT (power) "Regulator Output. Main output, requires a 10uF output capacitor. Can be shorted to VIN or ground without damaging the device.", 5 VIN (power) "Input Supply. Bypass with a 10uF capacitor. Must always be more positive than ground", 6 REF (out) "Reference. 2.5V can source or sink current. May be shorted to ground or up to 5V. Voltages in excess of 5V can damage the device.", 7 COMPOUT (oc) "Comparator Output. Open Collector NPN Output. May be connected to any voltage from ground to 36V more positive than ground (operates above VIN). Short-circuit protected.", 8 IN- (in) "Comparator Input. Inverting comparator input."

## LT1120CS8
designator U?
Comparator and Reference, Logic Shutdown, Reference Sources and Sinks 2 / 4 mA, 4.5 to 36 V Vin, Adjustable Vout, 8-pin SOIC (S8-8), 0 to 100 degC; Manufacturer: Linear Technology; PartNumber: LT1120CS8; Discrete Pass Element: no; Dropout Voltage(V): 0.4; Iout(mA): 125; Isupply(mA): 0.04; Number of Outputs: 1; Output Voltage: Adj; Shutdown Current(uA): 25; Vin Max(V): 36; Vin Min(V): 4.5; Vout Max(V): 35.15; Vout Min(V): 2.5; DatasheetVersion: Rev. D; PackageVersion: Rev. G, 03/2012; PackageReference: S8-8; PackageDescription: 8-Pin Plastic Small Outline (Narrow .150 Inch), Body 4.9 x 3.9 mm, Pitch 1.27 mm; Supplier 1: Digi-Key; Supplier Part Number 1: LT1120CS8-ND; RoHS: FALSE; Mounting Technology: Surface Mount; ComponentLink1Description: Manufacturer URL; ComponentLink1URL: http://www.linear.com/; ComponentLink2Description: Datasheet; ComponentLink2URL: http://cds.linear.com/docs/en/datasheet/1120fd.pdf; ComponentLink3Description: Package Specification; ComponentLink3URL: http://cds.linear.com/docs/en/packaging/05081610_G_SO8.pdf
footprint LT-S8-8_N (SOIC, 8-Leads, Body 4.9x3.9mm, Pitch 1.27mm, IPC Medium Density)
footprint LT-S8-8_L (SOIC, 8-Leads, Body 4.9x3.9mm, Pitch 1.27mm, IPC High Density)
footprint LT-S8-8_M (SOIC, 8-Leads, Body 4.9x3.9mm, Pitch 1.27mm, IPC Low Density)
pins: 1 GND (power) "Ground.", 2 FB (in) "Feedback. This is the feedback point of the regulator. When operating, it is nominally at 2.5V. Optimum source resistance is 200k to 500k. The feedback pin should not be driven below ground or more positive than 5V.", 3 SHDN (in) "Shutdown. A logic 1 shuts off the main regulator. Caution: noise or leakage into the shutdown pin can affect output voltage.", 4 VOUT (power) "Regulator Output. Main output, requires a 10uF output capacitor. Can be shorted to VIN or ground without damaging the device.", 5 VIN (power) "Input Supply. Bypass with a 10uF capacitor. Must always be more positive than ground", 6 REF (out) "Reference. 2.5V can source or sink current. May be shorted to ground or up to 5V. Voltages in excess of 5V can damage the device.", 7 COMPOUT (oc) "Comparator Output. Open Collector NPN Output. May be connected to any voltage from ground to 36V more positive than ground (operates above VIN). Short-circuit protected.", 8 IN- (in) "Comparator Input. Inverting comparator input."

## LT1120CS8#PBF
designator U?
Comparator and Reference, Logic Shutdown, Reference Sources and Sinks 2 / 4 mA, 4.5 to 36 V Vin, Adjustable Vout, 8-pin SOIC (S8-8), 0 to 100 degC, Pb-Free; Manufacturer: Linear Technology; PartNumber: LT1120CS8#PBF; Discrete Pass Element: no; Dropout Voltage(V): 0.4; Iout(mA): 125; Isupply(mA): 0.04; Number of Outputs: 1; Output Voltage: Adj; Shutdown Current(uA): 25; Vin Max(V): 36; Vin Min(V): 4.5; Vout Max(V): 35.15; Vout Min(V): 2.5; DatasheetVersion: Rev. D; PackageVersion: Rev. G, 03/2012; PackageReference: S8-8; PackageDescription: 8-Pin Plastic Small Outline (Narrow .150 Inch), Body 4.9 x 3.9 mm, Pitch 1.27 mm; Supplier 1: Digi-Key; Supplier Part Number 1: LT1120CS8#PBF-ND; Supplier 2: Farnell; Supplier Part Number 2: 1273566; Supplier 3: Newark; Supplier Part Number 3: 57M1865; RoHS: TRUE; Mounting Technology: Surface Mount; ComponentLink1Description: Manufacturer URL; ComponentLink1URL: http://www.linear.com/; ComponentLink2Description: Datasheet; ComponentLink2URL: http://cds.linear.com/docs/en/datasheet/1120fd.pdf; ComponentLink3Description: Package Specification; ComponentLink3URL: http://cds.linear.com/docs/en/packaging/05081610_G_SO8.pdf
footprint LT-S8-8_N (SOIC, 8-Leads, Body 4.9x3.9mm, Pitch 1.27mm, IPC Medium Density)
footprint LT-S8-8_L (SOIC, 8-Leads, Body 4.9x3.9mm, Pitch 1.27mm, IPC High Density)
footprint LT-S8-8_M (SOIC, 8-Leads, Body 4.9x3.9mm, Pitch 1.27mm, IPC Low Density)
pins: 1 GND (power) "Ground.", 2 FB (in) "Feedback. This is the feedback point of the regulator. When operating, it is nominally at 2.5V. Optimum source resistance is 200k to 500k. The feedback pin should not be driven below ground or more positive than 5V.", 3 SHDN (in) "Shutdown. A logic 1 shuts off the main regulator. Caution: noise or leakage into the shutdown pin can affect output voltage.", 4 VOUT (power) "Regulator Output. Main output, requires a 10uF output capacitor. Can be shorted to VIN or ground without damaging the device.", 5 VIN (power) "Input Supply. Bypass with a 10uF capacitor. Must always be more positive than ground", 6 REF (out) "Reference. 2.5V can source or sink current. May be shorted to ground or up to 5V. Voltages in excess of 5V can damage the device.", 7 COMPOUT (oc) "Comparator Output. Open Collector NPN Output. May be connected to any voltage from ground to 36V more positive than ground (operates above VIN). Short-circuit protected.", 8 IN- (in) "Comparator Input. Inverting comparator input."

## LT1120CS8#TR
designator U?
Comparator and Reference, Logic Shutdown, Reference Sources and Sinks 2 / 4 mA, 4.5 to 36 V Vin, Adjustable Vout, 8-pin SOIC (S8-8), 0 to 100 degC, Tape and Reel; Manufacturer: Linear Technology; PartNumber: LT1120CS8#TR; Discrete Pass Element: no; Dropout Voltage(V): 0.4; Iout(mA): 125; Isupply(mA): 0.04; Number of Outputs: 1; Output Voltage: Adj; Shutdown Current(uA): 25; Vin Max(V): 36; Vin Min(V): 4.5; Vout Max(V): 35.15; Vout Min(V): 2.5; DatasheetVersion: Rev. D; PackageVersion: Rev. G, 03/2012; PackageReference: S8-8; PackageDescription: 8-Pin Plastic Small Outline (Narrow .150 Inch), Body 4.9 x 3.9 mm, Pitch 1.27 mm; Supplier 1: Digi-Key; Supplier Part Number 1: LT1120CS8#TR-ND; Packing: Tape and Reel; RoHS: FALSE; Mounting Technology: Surface Mount; ComponentLink1Description: Manufacturer URL; ComponentLink1URL: http://www.linear.com/; ComponentLink2Description: Datasheet; ComponentLink2URL: http://cds.linear.com/docs/en/datasheet/1120fd.pdf; ComponentLink3Description: Package Specification; ComponentLink3URL: http://cds.linear.com/docs/en/packaging/05081610_G_SO8.pdf
footprint LT-S8-8_N (SOIC, 8-Leads, Body 4.9x3.9mm, Pitch 1.27mm, IPC Medium Density)
footprint LT-S8-8_L (SOIC, 8-Leads, Body 4.9x3.9mm, Pitch 1.27mm, IPC High Density)
footprint LT-S8-8_M (SOIC, 8-Leads, Body 4.9x3.9mm, Pitch 1.27mm, IPC Low Density)
pins: 1 GND (power) "Ground.", 2 FB (in) "Feedback. This is the feedback point of the regulator. When operating, it is nominally at 2.5V. Optimum source resistance is 200k to 500k. The feedback pin should not be driven below ground or more positive than 5V.", 3 SHDN (in) "Shutdown. A logic 1 shuts off the main regulator. Caution: noise or leakage into the shutdown pin can affect output voltage.", 4 VOUT (power) "Regulator Output. Main output, requires a 10uF output capacitor. Can be shorted to VIN or ground without damaging the device.", 5 VIN (power) "Input Supply. Bypass with a 10uF capacitor. Must always be more positive than ground", 6 REF (out) "Reference. 2.5V can source or sink current. May be shorted to ground or up to 5V. Voltages in excess of 5V can damage the device.", 7 COMPOUT (oc) "Comparator Output. Open Collector NPN Output. May be connected to any voltage from ground to 36V more positive than ground (operates above VIN). Short-circuit protected.", 8 IN- (in) "Comparator Input. Inverting comparator input."

## LT1120CS8#TRPBF
designator U?
Comparator and Reference, Logic Shutdown, Reference Sources and Sinks 2 / 4 mA, 4.5 to 36 V Vin, Adjustable Vout, 8-pin SOIC (S8-8), 0 to 100 degC, Pb-Free, Tape and Reel; Manufacturer: Linear Technology; PartNumber: LT1120CS8#TRPBF; Discrete Pass Element: no; Dropout Voltage(V): 0.4; Iout(mA): 125; Isupply(mA): 0.04; Number of Outputs: 1; Output Voltage: Adj; Shutdown Current(uA): 25; Vin Max(V): 36; Vin Min(V): 4.5; Vout Max(V): 35.15; Vout Min(V): 2.5; DatasheetVersion: Rev. D; PackageVersion: Rev. G, 03/2012; PackageReference: S8-8; PackageDescription: 8-Pin Plastic Small Outline (Narrow .150 Inch), Body 4.9 x 3.9 mm, Pitch 1.27 mm; Supplier 1: Digi-Key; Supplier Part Number 1: LT1120CS8#TRPBF-ND; Packing: Tape and Reel; RoHS: TRUE; Mounting Technology: Surface Mount; ComponentLink1Description: Manufacturer URL; ComponentLink1URL: http://www.linear.com/; ComponentLink2Description: Datasheet; ComponentLink2URL: http://cds.linear.com/docs/en/datasheet/1120fd.pdf; ComponentLink3Description: Package Specification; ComponentLink3URL: http://cds.linear.com/docs/en/packaging/05081610_G_SO8.pdf
footprint LT-S8-8_N (SOIC, 8-Leads, Body 4.9x3.9mm, Pitch 1.27mm, IPC Medium Density)
footprint LT-S8-8_L (SOIC, 8-Leads, Body 4.9x3.9mm, Pitch 1.27mm, IPC High Density)
footprint LT-S8-8_M (SOIC, 8-Leads, Body 4.9x3.9mm, Pitch 1.27mm, IPC Low Density)
pins: 1 GND (power) "Ground.", 2 FB (in) "Feedback. This is the feedback point of the regulator. When operating, it is nominally at 2.5V. Optimum source resistance is 200k to 500k. The feedback pin should not be driven below ground or more positive than 5V.", 3 SHDN (in) "Shutdown. A logic 1 shuts off the main regulator. Caution: noise or leakage into the shutdown pin can affect output voltage.", 4 VOUT (power) "Regulator Output. Main output, requires a 10uF output capacitor. Can be shorted to VIN or ground without damaging the device.", 5 VIN (power) "Input Supply. Bypass with a 10uF capacitor. Must always be more positive than ground", 6 REF (out) "Reference. 2.5V can source or sink current. May be shorted to ground or up to 5V. Voltages in excess of 5V can damage the device.", 7 COMPOUT (oc) "Comparator Output. Open Collector NPN Output. May be connected to any voltage from ground to 36V more positive than ground (operates above VIN). Short-circuit protected.", 8 IN- (in) "Comparator Input. Inverting comparator input."

## LT1120IN8
designator U?
Comparator and Reference, Logic Shutdown, Reference Sources and Sinks 2 / 4 mA, 4.5 to 36 V Vin, Adjustable Vout, 8-pin DIP (N8-8), -40 to 100 degC; Manufacturer: Linear Technology; PartNumber: LT1120IN8; Discrete Pass Element: no; Dropout Voltage(V): 0.4; Iout(mA): 125; Isupply(mA): 0.04; Number of Outputs: 1; Output Voltage: Adj; Shutdown Current(uA): 25; Vin Max(V): 36; Vin Min(V): 4.5; Vout Max(V): 35.15; Vout Min(V): 2.5; DatasheetVersion: Rev. D; PackageVersion: Rev. I, 07/2011; PackageReference: N8-8; PackageDescription: 8-Pin PDIP, Body 10.16 x 6.48 mm, Pitch 2.54 mm; Supplier 1: Digi-Key; Supplier Part Number 1: LT1120IN8-ND; RoHS: FALSE; Mounting Technology: Through Hole; ComponentLink1Description: Manufacturer URL; ComponentLink1URL: http://www.linear.com/; ComponentLink2Description: Datasheet; ComponentLink2URL: http://cds.linear.com/docs/en/datasheet/1120fd.pdf; ComponentLink3Description: Package Specification; ComponentLink3URL: http://www.linear.com/docs/en/packaging/05081510_I_N8.pdf
footprint LT-N8-8 (DIP, 8-Leads, Body 10.16x6.48mm, Pitch 2.54mm)
pins: 1 GND (power) "Ground.", 2 FB (in) "Feedback. This is the feedback point of the regulator. When operating, it is nominally at 2.5V. Optimum source resistance is 200k to 500k. The feedback pin should not be driven below ground or more positive than 5V.", 3 SHDN (in) "Shutdown. A logic 1 shuts off the main regulator. Caution: noise or leakage into the shutdown pin can affect output voltage.", 4 VOUT (power) "Regulator Output. Main output, requires a 10uF output capacitor. Can be shorted to VIN or ground without damaging the device.", 5 VIN (power) "Input Supply. Bypass with a 10uF capacitor. Must always be more positive than ground", 6 REF (out) "Reference. 2.5V can source or sink current. May be shorted to ground or up to 5V. Voltages in excess of 5V can damage the device.", 7 COMPOUT (oc) "Comparator Output. Open Collector NPN Output. May be connected to any voltage from ground to 36V more positive than ground (operates above VIN). Short-circuit protected.", 8 IN- (in) "Comparator Input. Inverting comparator input."